# EAGLE library part SWITCH-DUAL-MOSFET (library Pinoccio)
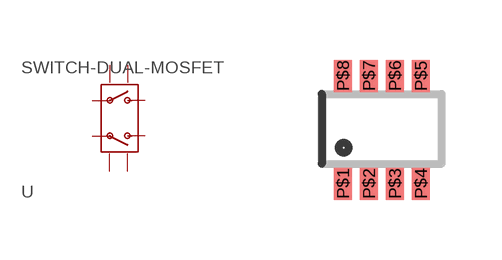
[diagram p9: symbol with the pads of SOT23-8; footprint SOT23-8]

Designator prefix -

## SWITCH-DUAL-MOSFETSOT23-8  [SOT23-8]
P$1  VIN1  pas
P$2  P2-ON1  pas
P$3  P3-ON2  pas
P$4  P4-VIN2  pas
P$5  P5-VOUT2  pas
P$6  P6-GND  pas
P$7  P7-SR  pas
P$8  P8-VOUT1  pas

## Footprint SOT23-8 (pad centres in mm)
smd 0.45 x 0.8: P$1 0.23,0.4; P$2 0.88,0.4; P$3 1.53,0.4; P$4 2.18,0.4; P$5 2.18,3.1; P$6 1.53,3.1; P$7 0.88,3.1; P$8 0.23,3.1